# Altium schematic symbol library MCU_Microchip_PIC24.SchLib: 3 symbols
Pins are listed as number, name and electrical type; pins without a type are passive.

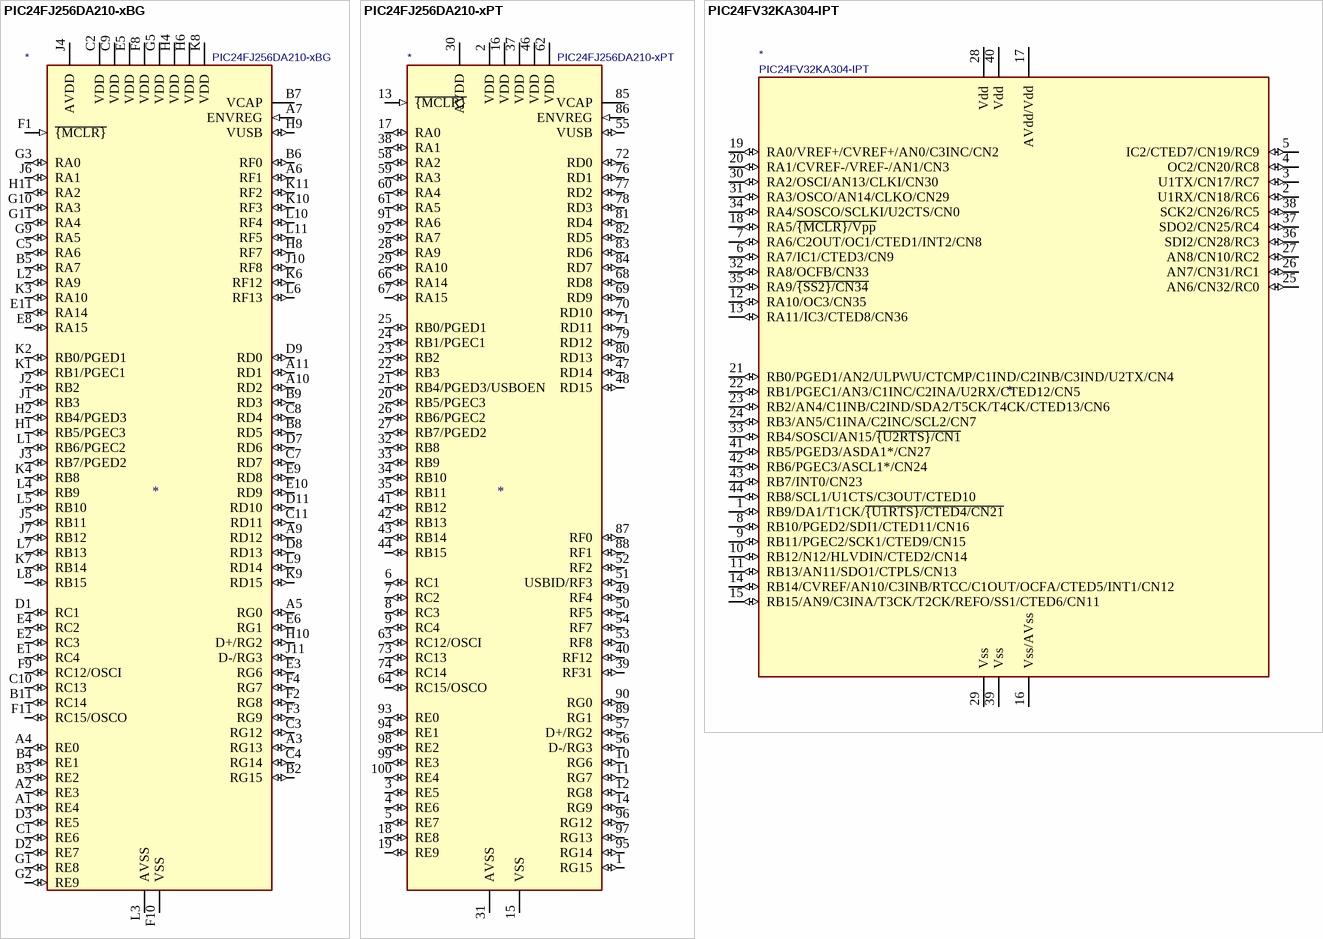
[diagram p0: symbols PIC24FJ256DA210-xBG to PIC24FV32KA304-IPT]

## PIC24FJ256DA210-xBG
designator *  value PIC24FJ256DA210-xBG
ki_keywords: Flash-Based 16-Bit Microcontroller; ki_description: 256K Flash, 96KB SRAM, Graphic controller, USB, BGA-121; ki_fp_filters: XBGA*10x10mm*Layout11x11*P0.8mm*; Footprint: Package_BGA:XBGA-121_10x10mm_Layout11x11_P0.8mm; Supplier: http://ww1.microchip.com/downloads/en/DeviceDoc/39969b.pdf
footprint XBGA-121_10x10mm_Layout11x11_P0.8mm
pins: A1 RE4 (io), A2 RE3 (io), A3 RG13 (io), A4 RE0 (io), A5 RG0 (io), A6 RF1 (io), A7 ENVREG (in), A8 N/C (in) hidden, A9 RD12 (io), A10 RD2 (io), A11 RD1 (io), B1 N/C (in) hidden, B2 RG15 (io), B3 RE2 (io), B4 RE1 (io), B5 RA7 (io), B6 RF0 (io), B7 VCAP, B8 RD5 (io), B9 RD3 (io), B10 VSS hidden, B11 RC14 (io), C1 RE6 (io), C2 VDD (power), C3 RG12 (io), C4 RG14 (io), C5 RA6 (io), C6 N/C (in) hidden, C7 RD7 (io), C8 RD4 (io), C9 VDD (power), C10 RC13 (io), C11 RD11 (io), D1 RC1 (io), D2 RE7 (io), D3 RE5 (io), D4 VSS hidden, D5 VSS hidden, D6 N/C (in) hidden, D7 RD6 (io), D8 RD13 (io), D9 RD0 (io), D10 N/C (in) hidden, D11 RD10 (io), E1 RC4 (io), E2 RC3 (io), E3 RG6 (io), E4 RC2 (io), E5 VDD (power), E6 RG1 (io), E7 N/C (in) hidden, E8 RA15 (io), E9 RD8 (io), E10 RD9 (io), E11 RA14 (io), F1 ~{{MCLR}} (in), F2 RG8 (io), F3 RG9 (io), F4 RG7 (io), F5 VSS hidden, F6 N/C (in) hidden, F7 N/C (in) hidden, F8 VDD (power), F9 RC12/OSCI (io), F10 VSS (power), F11 RC15/OSCO (io), G1 RE8 (io), G2 RE9 (io), G3 RA0 (io), G4 N/C (in) hidden, G5 VDD (power), G6 VSS hidden, G7 VSS hidden, G8 N/C (in) hidden, G9 RA5 (io), G10 RA3 (io), G11 RA4 (io), H1 RB5/PGEC3 (io), H2 RB4/PGED3 (io), H3 VSS hidden, H4 VDD (power), H5 N/C (in) hidden, H6 VDD (power), H7 N/C (in) hidden, H8 RF7 (io), H9 VUSB (io), H10 D+/RG2 (io), H11 RA2 (io), J1 RB3 (io), J2 RB2 (io), J3 RB7/PGED2 (io), J4 AVDD (power), J5 RB11 (io), J6 RA1 (io), J7 RB12 (io), J8 N/C (in) hidden, J9 N/C (in) hidden, J10 RF8 (io), J11 D-/RG3 (io), K1 RB1/PGEC1 (io), K2 RB0/PGED1 (io), K3 RA10 (io), K4 RB8 (io), K5 N/C (in) hidden, K6 RF12 (io), K7 RB14 (io), K8 VDD (power), K9 RD15 (io), K10 RF3 (io), K11 RF2 (io), L1 RB6/PGEC2 (io), L2 RA9 (io), L3 AVSS (power), L4 RB9 (io), L5 RB10 (io), L6 RF13 (io), L7 RB13 (io), L8 RB15 (io), L9 RD14 (io), L10 RF4 (io), L11 RF5 (io)

## PIC24FJ256DA210-xPT
designator *  value PIC24FJ256DA210-xPT
ki_keywords: Flash-Based 16-Bit Microcontroller; ki_description: 256K Flash, 96KB SRAM, Graphic controller, USB, TQFP-100; ki_fp_filters: TQFP*12x12mm*P0.4mm*; Footprint: Package_QFP:TQFP-100_12x12mm_P0.4mm; Supplier: http://ww1.microchip.com/downloads/en/DeviceDoc/39969b.pdf
footprint TQFP-100_12x12mm_P0.4mm
pins: 1 RG15 (io), 2 VDD (power), 3 RE5 (io), 4 RE6 (io), 5 RE7 (io), 6 RC1 (io), 7 RC2 (io), 8 RC3 (io), 9 RC4 (io), 10 RG6 (io), 11 RG7 (io), 12 RG8 (io), 13 ~{{MCLR}} (in), 14 RG9 (io), 15 VSS (power), 16 VDD (power), 17 RA0 (io), 18 RE8 (io), 19 RE9 (io), 20 RB5/PGEC3 (io), 21 RB4/PGED3/USBOEN (io), 22 RB3 (io), 23 RB2 (io), 24 RB1/PGEC1 (io), 25 RB0/PGED1 (io), 26 RB6/PGEC2 (io), 27 RB7/PGED2 (io), 28 RA9 (io), 29 RA10 (io), 30 AVDD (power), 31 AVSS (power), 32 RB8 (io), 33 RB9 (io), 34 RB10 (io), 35 RB11 (io), 36 VSS hidden, 37 VDD (power), 38 RA1 (io), 39 RF31 (io), 40 RF12 (io), 41 RB12 (io), 42 RB13 (io), 43 RB14 (io), 44 RB15 (io), 45 VSS hidden, 46 VDD (power), 47 RD14 (io), 48 RD15 (io), 49 RF4 (io), 50 RF5 (io), 51 USBID/RF3 (io), 52 RF2 (io), 53 RF8 (io), 54 RF7 (io), 55 VUSB (io), 56 D-/RG3 (io), 57 D+/RG2 (io), 58 RA2 (io), 59 RA3 (io), 60 RA4 (io), 61 RA5 (io), 62 VDD (power), 63 RC12/OSCI (io), 64 RC15/OSCO (io), 65 VSS hidden, 66 RA14 (io), 67 RA15 (io), 68 RD8 (io), 69 RD9 (io), 70 RD10 (io), 71 RD11 (io), 72 RD0 (io), 73 RC13 (io), 74 RC14 (io), 75 VSS hidden, 76 RD1 (io), 77 RD2 (io), 78 RD3 (io), 79 RD12 (io), 80 RD13 (io), 81 RD4 (io), 82 RD5 (io), 83 RD6 (io), 84 RD7 (io), 85 VCAP, 86 ENVREG (in), 87 RF0 (io), 88 RF1 (io), 89 RG1 (io), 90 RG0 (io), 91 RA6 (io), 92 RA7 (io), 93 RE0 (io), 94 RE1 (io), 95 RG14 (io), 96 RG12 (io), 97 RG13 (io), 98 RE2 (io), 99 RE3 (io), 100 RE4 (io)

## PIC24FV32KA304-IPT
designator *  value PIC24FV32KA304-IPT
ki_keywords: Flash-Based 16-Bit Microcontroller; ki_description: 32K Flash, 2048B SRAM, 512B EEPROM, nanoWatt XLP, 12-bit ADC, PWM, RTCC, TQFP44; ki_fp_filters: TQFP*10x10mm*P0.8mm*; Footprint: Package_QFP:TQFP-44_10x10mm_P0.8mm; Supplier: http://ww1.microchip.com/downloads/en/DeviceDoc/39995d.pdf
footprint TQFP-44_10x10mm_P0.8mm
pins: 1 RB9/DA1/T1CK/~{{U1RTS}/CTED4/CN21} (io), 2 U1RX/CN18/RC6 (io), 3 U1TX/CN17/RC7 (io), 4 OC2/CN20/RC8 (io), 5 IC2/CTED7/CN19/RC9 (io), 6 RA7/IC1/CTED3/CN9 (io), 7 RA6/C2OUT/OC1/CTED1/INT2/CN8 (io), 8 RB10/PGED2/SDI1/CTED11/CN16 (io), 9 RB11/PGEC2/SCK1/CTED9/CN15 (io), 10 RB12/N12/HLVDIN/CTED2/CN14 (io), 11 RB13/AN11/SDO1/CTPLS/CN13 (io), 12 RA10/OC3/CN35 (io), 13 RA11/IC3/CTED8/CN36 (io), 14 RB14/CVREF/AN10/C3INB/RTCC/C1OUT/OCFA/CTED5/INT1/CN12 (io), 15 RB15/AN9/C3INA/T3CK/T2CK/REFO/SS1/CTED6/CN11 (io), 16 Vss/AVss (power), 17 AVdd/Vdd (power), 18 RA5/~{{MCLR}/Vpp} (io), 19 RA0/VREF+/CVREF+/AN0/C3INC/CN2 (io), 20 RA1/CVREF-/VREF-/AN1/CN3 (io), 21 RB0/PGED1/AN2/ULPWU/CTCMP/C1IND/C2INB/C3IND/U2TX/CN4 (io), 22 RB1/PGEC1/AN3/C1INC/C2INA/U2RX/CTED12/CN5 (io), 23 RB2/AN4/C1INB/C2IND/SDA2/T5CK/T4CK/CTED13/CN6 (io), 24 RB3/AN5/C1INA/C2INC/SCL2/CN7 (io), 25 AN6/CN32/RC0 (io), 26 AN7/CN31/RC1 (io), 27 AN8/CN10/RC2 (io), 28 Vdd (power), 29 Vss (power), 30 RA2/OSCI/AN13/CLKI/CN30 (io), 31 RA3/OSCO/AN14/CLKO/CN29 (io), 32 RA8/OCFB/CN33 (io), 33 RB4/SOSCI/AN15/~{{U2RTS}/CN1} (io), 34 RA4/SOSCO/SCLKI/U2CTS/CN0 (io), 35 RA9/~{{SS2}/CN34} (io), 36 SDI2/CN28/RC3 (io), 37 SDO2/CN25/RC4 (io), 38 SCK2/CN26/RC5 (io), 39 Vss (power), 40 Vdd (power), 41 RB5/PGED3/ASDA1*/CN27 (io), 42 RB6/PGEC3/ASCL1*/CN24 (io), 43 RB7/INT0/CN23 (io), 44 RB8/SCL1/U1CTS/C3OUT/CTED10 (io)